# EAGLE library part 1720819 (library SamacSys_Parts)
Phoenix Contact PC Series, 7.62mm Pitch 4 Way Electronic Housing, Solder Termination, 41A Source: Datasheet <https://componentsearchengine.com/Datasheets/1/1720819.pdf>
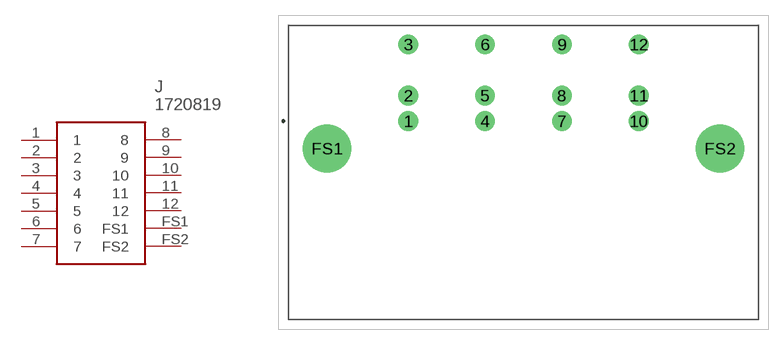
[diagram p3: symbol with the pads of 1720819; footprint 1720819]

Designator prefix J

## 1720819 (Description: Phoenix Contact PC Series, 7.62mm Pitch 4 Way Electronic Housing, Solder Termination, 41A; Height: 14.44mm; Manufacturer_Name: Phoenix Contact; Manufacturer_Part_Number: 1720819; Mouser_Part_Number: 651-1720819; Mouser_Price-Stock: https://www.mouser.com/Search/Refine.aspx?Keyword=651-1720819)  [1720819]
1  1
2  2
3  3
4  4
5  5
6  6
7  7
8  8
9  9
10  10
11  11
12  12
FS1  FS1
FS2  FS2

## Footprint 1720819 (pad centres in mm)
1720819-1
drill 1.3 pad 1.95: 1 0,0; 2 0,2.54; 3 0,7.62; 4 7.62,0; 5 7.62,2.54; 6 7.62,7.62; 7 15.24,0; 8 15.24,2.54; 9 15.24,7.62; 10 22.86,0; 11 22.86,2.54; 12 22.86,7.62
drill 3.2 pad 4.8: FS1 -8.06,-2.72; FS2 30.92,-2.72